# EAGLE library part HTCC-AB01 (library ruark2)
HTCC-AB01
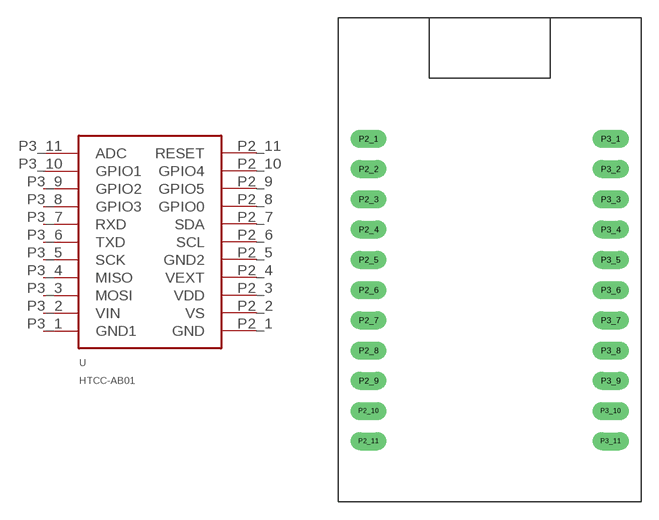
[diagram p166: symbol with the pads of HTCC-AB01; footprint HTCC-AB01]

Designator prefix U

## HTCC-AB01  [HTCC-AB01]
P2_1  GND
P2_2  VS
P2_3  VDD
P2_4  VEXT
P2_5  GND2
P2_6  SCL
P2_7  SDA
P2_8  GPIO0
P2_9  GPIO5
P2_10  GPIO4
P2_11  RESET
P3_1  GND1
P3_2  VIN
P3_3  MOSI
P3_4  MISO
P3_5  SCK
P3_6  TXD
P3_7  RXD
P3_8  GPIO3
P3_9  GPIO2
P3_10  GPIO1
P3_11  ADC

## Footprint HTCC-AB01 (pad centres in mm)
drill 1.016 long: P2_1 -10.16,10.16; P2_2 -10.16,7.62; P2_3 -10.16,5.08; P2_4 -10.16,2.54; P2_5 -10.16,0; P2_6 -10.16,-2.54; P2_7 -10.16,-5.08; P2_8 -10.16,-7.62; P2_9 -10.16,-10.16; P2_10 -10.16,-12.7; P2_11 -10.16,-15.24; P3_1 10.16,10.16; P3_2 10.16,7.62; P3_3 10.16,5.08; P3_4 10.16,2.54; P3_5 10.16,0; P3_6 10.16,-2.54; P3_7 10.16,-5.08; P3_8 10.16,-7.62; P3_9 10.16,-10.16; P3_10 10.16,-12.7; P3_11 10.16,-15.24